# EAGLE library part F09VP (library ENERGY METR_MY_WASH_HOST_V0.1)
SUB-D
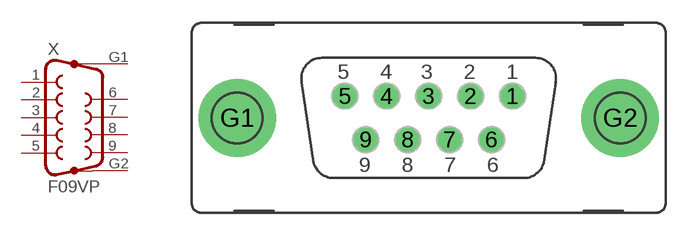
[diagram p3: symbol with the pads of F09VP; footprint F09VP]

Designator prefix X

## F09VP (OC_FARNELL: unknown; OC_NEWARK: unknown)  [F09VP]
1  1  pas
2  2  pas
3  3  pas
4  4  pas
5  5  pas
6  6  pas
7  7  pas
8  8  pas
9  9  pas
G1  G1  pas
G2  G2  pas

## Footprint F09VP (pad centres in mm)
SUB-D
drill 1.016 octagon: 1 5.486,1.422; 2 2.743,1.422; 3 0,1.422; 4 -2.743,1.422; 5 -5.486,1.422; 6 4.115,-1.422; 7 1.372,-1.422; 8 -1.372,-1.422; 9 -4.115,-1.422
drill 3.302 pad 5.08: G1 -12.522,0; G2 12.522,0